# EAGLE library part POLOLU (library pololu)
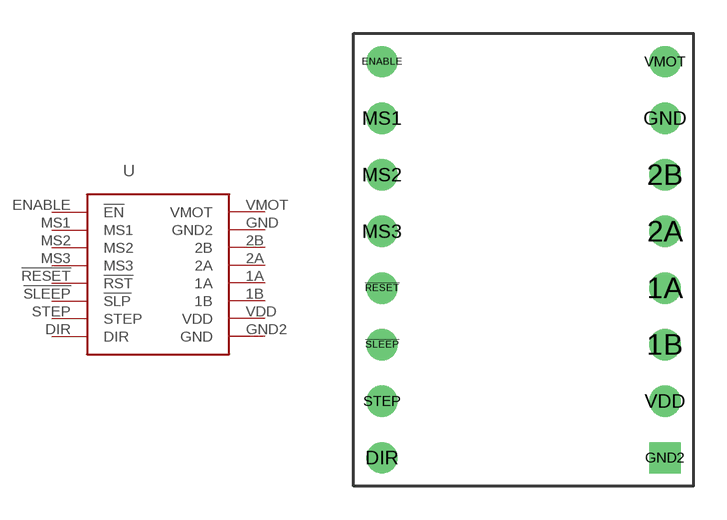
[diagram p0: symbol with the pads of POLOLU; footprint POLOLU]

Designator prefix -

## POLOLU  [POLOLU]
1A  1A
1B  1B
2A  2A
2B  2B
!RESET  !RST
!SLEEP  !SLP
DIR  DIR
ENABLE  !EN
GND  GND2
GND2  GND
MS1  MS1
MS2  MS2
MS3  MS3
STEP  STEP
VDD  VDD
VMOT  VMOT

## Footprint POLOLU (pad centres in mm)
drill 0.9: 1A 6.35,-1.27; 1B 6.35,-3.81; 2A 6.35,1.27; 2B 6.35,3.81; !RESET -6.35,-1.27; !SLEEP -6.35,-3.81; DIR -6.35,-8.89; ENABLE -6.35,8.89; GND 6.35,6.35; MS1 -6.35,6.35; MS2 -6.35,3.81; MS3 -6.35,1.27; STEP -6.35,-6.35; VDD 6.35,-6.35; VMOT 6.35,8.89
drill 0.9 square: GND2 6.35,-8.89